# EAGLE library part WE-PPTI_EP5 (library Eagle_WE-PPTI (rev24c))
WE-PPTI Push-Pull Transformers Characteristics Small size Surface mount Low profile Operating temp: -40°C to 125°C Functional or Reinforced Insulation Applications Isolated interface power supply for CAN, RS-485, RS-422, RS-232, SPI, I2C, lower-power LAN Industrial automation Process control Medical equipment PLC analog and digital I/O modules Isolated gate driver power supplies AC motor drives Uninterruptible power supplies (UPS) Solar inverters Polyphase energy meters Protection relays and IEDs <https://www.we-online.com/components/media/o715993v209%20Family-PPTI.jpg> Details see: www.we-online.com/en/components/products/WE-PPTI <www.we-online.com/catalog/WE-PPTI/?utm_source=eagle_model&utm_medium=description_link&utm_campaign=eisos_eagle> Created by Ella Wu 2023-02-20 2023 (C) Wurth Elektronik
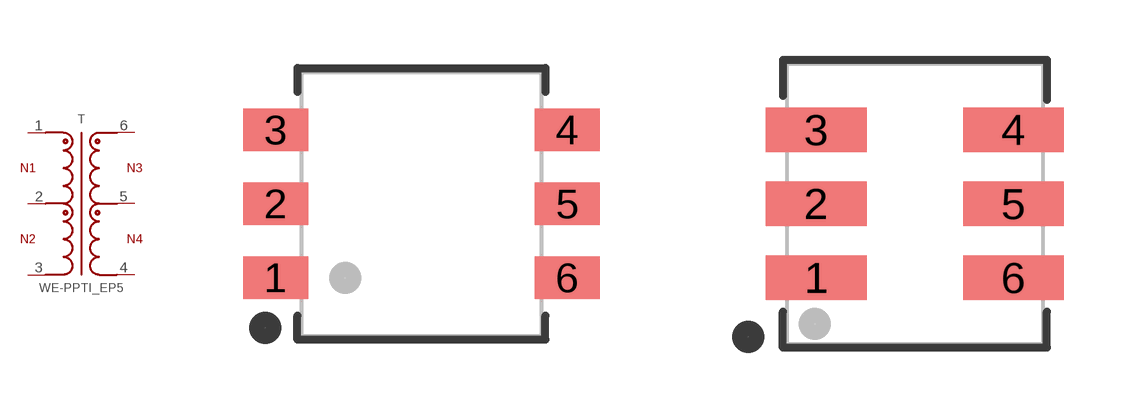
[diagram p3: symbol with the pads of WE-PPTI_EP5_L8.26W6.6H5.59; footprints WE-PPTI_EP5_L8.26W6.6H5.59, WE-PPTI_EP5_L9.1W7H7.8]

Designator prefix T

## WE-PPTI_EP5_750311542_L8.26W6.6H5.59 (DATASHEET-URL: https://www.we-online.com/redexpert/spec/750311542?ae; FSWITCH: 500kHz; HEIGHT: 5.59mm; IOUT1: 450mA; L: 500uH; LENGTH: 8.26mm; MOUNT: SMT; N: 1:2.73; PART-NUMBER: 750311542; SIZE: EP5; TYPE-OF-INSULATION: Functional; VALUE: 750311542; VIN: 5 V (DC); VOLTAGE-TIME: 9Vus; VOUT1: 5V; VT: 1000 V(AC); WIDTH: 6.6mm)  [WE-PPTI_EP5_L8.26W6.6H5.59]
1  1  pas
2  2  pas
3  3  pas
4  4  pas
5  5  pas
6  6  pas

## WE-PPTI_EP5_750314706_L9.1W7H7.8 (DATASHEET-URL: https://www.we-online.com/redexpert/spec/750314706?ae; FSWITCH: 100 - 500kHz; HEIGHT: 7.8mm; IOUT1: 300mA; L: 250uH; LENGTH: 9.1mm; MOUNT: SMT; N: 1:1.8; PART-NUMBER: 750314706; SIZE: EP5; TYPE-OF-INSULATION: Functional; VALUE: 750314706; VIN: 3.3 V (DC); VOLTAGE-TIME: 27Vus; VOUT1: 5V; VT: 2500 V(AC); WIDTH: 7mm), WE-PPTI_EP5_750315072_L9.1W7H7.8 (DATASHEET-URL: https://www.we-online.com/redexpert/spec/750315072?ae; FSWITCH: 100 - 500kHz; HEIGHT: 7.8mm; IOUT1: 600mA; L: 635uH; LENGTH: 9.1mm; MOUNT: SMT; N: 1.53:1; PART-NUMBER: 750315072; SIZE: EP5; TYPE-OF-INSULATION: Functional; VALUE: 750315072; VIN: 5 V (DC); VOLTAGE-TIME: 42Vus; VOUT1: 3.3V; VT: 2500 V(AC); WIDTH: 7mm), WE-PPTI_EP5_750315089_L9.1W7H7.8 (DATASHEET-URL: https://www.we-online.com/redexpert/spec/750315089?ae; FSWITCH: 100 - 500kHz; HEIGHT: 7.8mm; IOUT1: 330mA; L: 635uH; LENGTH: 9.1mm; MOUNT: SMT; N: 1:1; PART-NUMBER: 750315089; SIZE: EP5; TYPE-OF-INSULATION: Functional; VALUE: 750315089; VIN: 5 V (DC); VOLTAGE-TIME: 42Vus; VOUT1: 5V; VT: 2500 V(AC); WIDTH: 7mm), WE-PPTI_EP5_750315090_L9.1W7H7.8 (DATASHEET-URL: https://www.we-online.com/redexpert/spec/750315090?ae; FSWITCH: 100 - 500kHz; HEIGHT: 7.8mm; IOUT1: 600mA; L: 270uH; LENGTH: 9.1mm; MOUNT: SMT; N: 1:1; PART-NUMBER: 750315090; SIZE: EP5; TYPE-OF-INSULATION: Functional; VALUE: 750315090; VIN: 3.3 V (DC); VOLTAGE-TIME: 27Vus; VOUT1: 3.3V; VT: 2500 V(AC); WIDTH: 7mm)  [WE-PPTI_EP5_L9.1W7H7.8]
Pads as for WE-PPTI_EP5_L8.26W6.6H5.59

## Footprint WE-PPTI_EP5_L8.26W6.6H5.59 (pad centres in mm)
WE-PPTI Push-Pull Transformers Size: EP5, SMT, 6pins LXWXH=8.26X6.6X5.59mm
smd 1.63 x 1.07: 1 -3.645,-1.85; 2 -3.645,0; 3 -3.645,1.85; 4 3.645,1.85; 5 3.645,0; 6 3.645,-1.85

## Footprint WE-PPTI_EP5_L9.1W7H7.8 (pad centres in mm)
WE-PPTI Push-Pull Transformers Size: EP5, SMT, 6pins LXWXH=9.1X7X7.8mm
smd 2.52 x 1.12: 1 -2.465,-1.85; 2 -2.465,0; 3 -2.465,1.85; 4 2.465,1.85; 5 2.465,0; 6 2.465,-1.85